# Altium footprint library Capacitors_imp.PCBLIB: 52 footprints (part 3 of 4)
Each footprint in its own frame and in the unit in brackets; x right, y up, seen from the top. Pads: shape width x height; smd on the part's side, far side on the other; paste and mask are expansions set on the pad; w line width, h text height; cw(c..) or ccw(c..) is an arc to the next point about the centre after c.
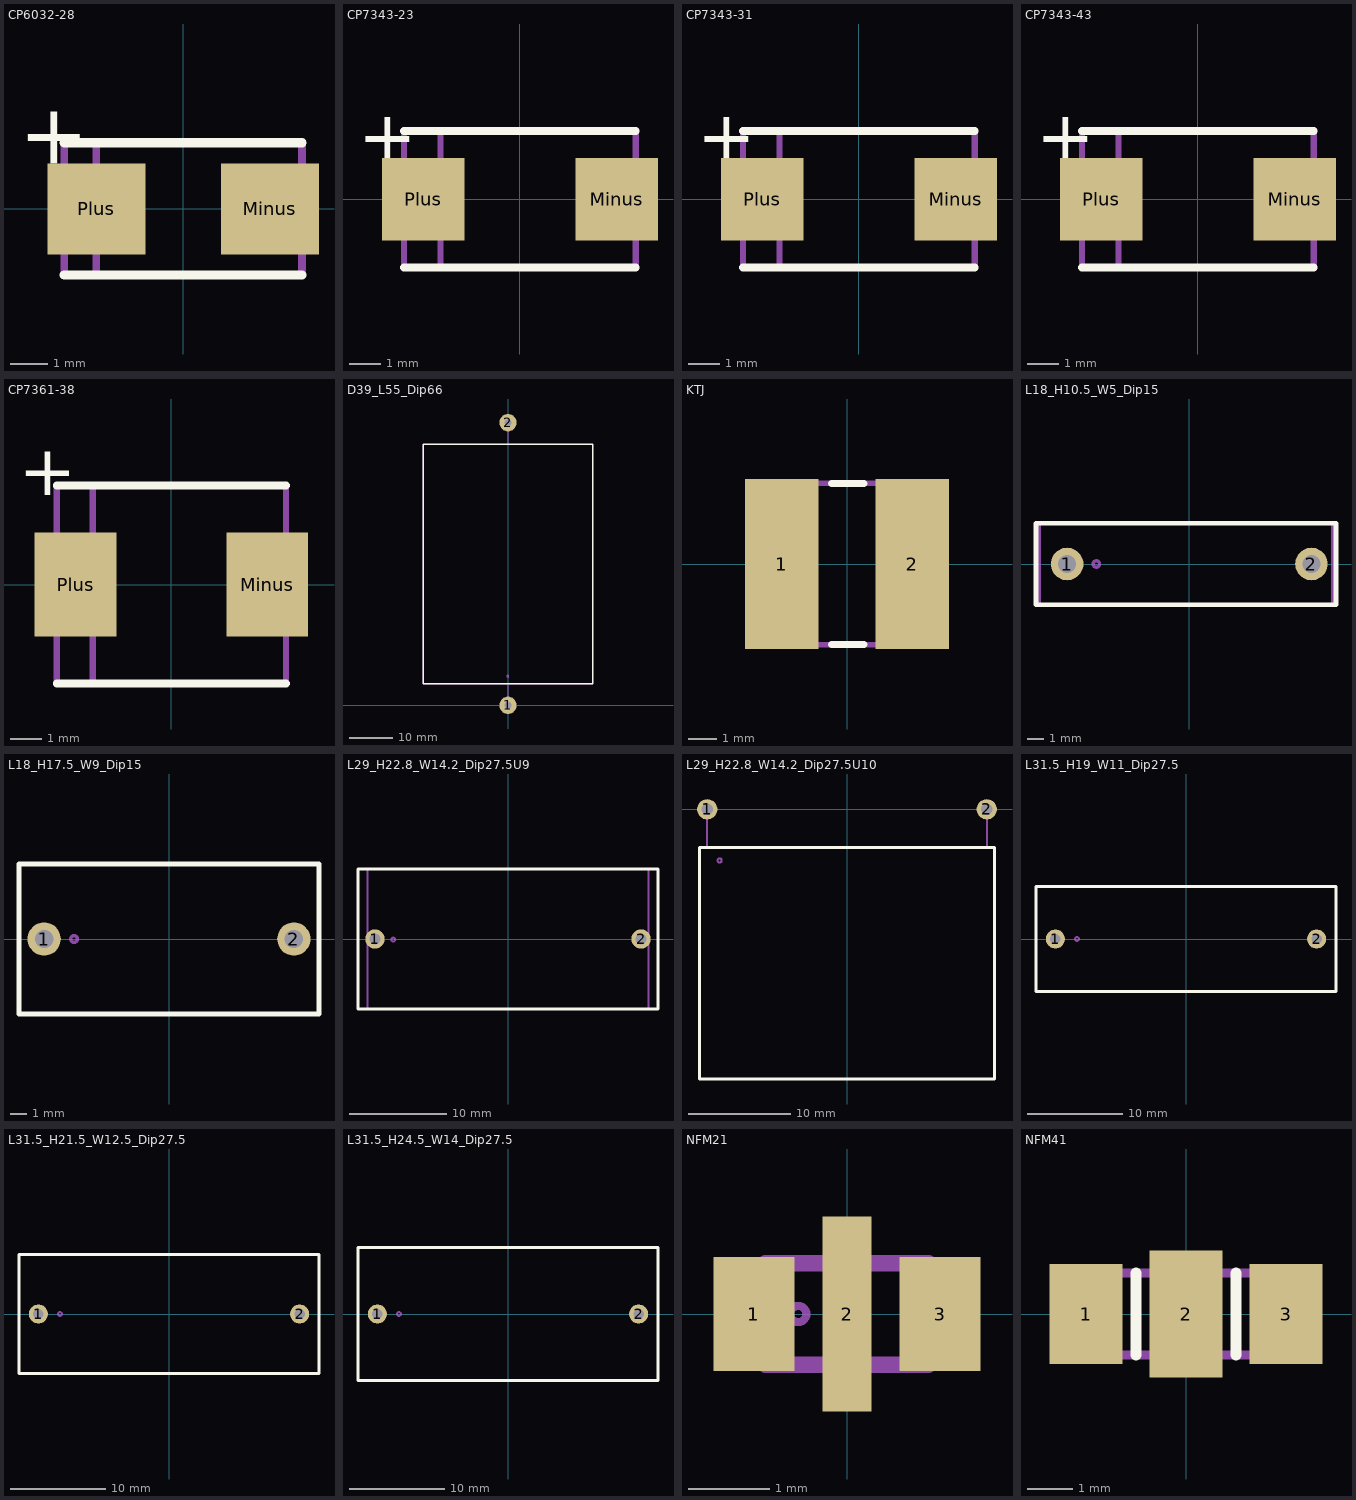
[diagram p2: the footprints below, top view; thin cyan lines are the x and y axes]

## CP6032-28 [mm]
height 2.8
pads (2):
  rect 2.6x2.4 smd: Minus(2.3,0) Plus(-2.3,0)
Top Overlay:
  lines w0.25: -3.15,-1.75 3.15,-1.75 ; -3.15,1.75 3.15,1.75
  text "+" at -4.35,1.2 h1.61
Mechanical 1:
  lines w0.2: -2.3,-1.75 -2.3,1.75 ; -3.15,-1.75 -3.15,1.75 3.15,1.75 3.15,-1.75 -3.15,-1.75
  text "+" at -2.05,-0.45 h1.5
  text ".Designator" at -0.88,-0.36 h1.5
3D body: height 2.9, standoff 0, extent -3.45,-1.75 3.45,1.75

## CP7343-23 [mm]
height 2.3
pads (2):
  rect 2.6x2.6 smd: Minus(3.05,0) Plus(-3.05,0)
Top Overlay:
  lines w0.25: -3.65,-2.15 3.65,-2.15 ; -3.65,2.15 3.65,2.15
  text "+" at -5.1,1.2 h1.61
Mechanical 1:
  lines w0.2: -2.5,-2 -2.5,2 ; -3.65,-2.15 3.65,-2.15 3.65,2.15 -3.65,2.15 -3.65,-2.15
  text ".Designator" at -0.98,-0.43 h1.5
  text "+" at -2,-0.45 h1.5
3D body: height 2.4, standoff 0, extent -3.8,-2.3 3.8,2.3

## CP7343-31 [mm]
height 3.1
pads (2):
  rect 2.6x2.6 smd: Minus(3.05,0) Plus(-3.05,0)
Top Overlay:
  lines w0.25: -3.65,-2.15 3.65,-2.15 ; -3.65,2.15 3.65,2.15
  text "+" at -5.1,1.2 h1.61
Mechanical 1:
  lines w0.2: -2.5,-2 -2.5,2 ; -3.65,-2.15 3.65,-2.15 3.65,2.15 -3.65,2.15 -3.65,-2.15
  text ".Designator" at -0.93,-0.44 h1.5
  text "+" at -1.95,-0.45 h1.5
3D body: height 3.2, standoff 0, extent -4.1,-2.3 4.1,2.3

## CP7343-43 [mm]
height 4.3
pads (2):
  rect 2.6x2.6 smd: Minus(3.05,0) Plus(-3.05,0)
Top Overlay:
  lines w0.25: -3.65,-2.15 3.65,-2.15 ; -3.65,2.15 3.65,2.15
  text "+" at -5.1,1.2 h1.61
Mechanical 1:
  lines w0.2: -2.5,-2 -2.5,2 ; -3.65,-2.15 -3.65,2.15 3.65,2.15 3.65,-2.15 -3.65,-2.15
  text "+" at -2.05,-0.45 h1.5
  text ".Designator" at -0.66,-0.4 h1.5
3D body: height 4.4, standoff 0, extent -4.1,-2.3 4.1,2.3

## CP7361-38 [mm]
height 3.8
pads (2):
  rect 2.6x3.3 smd: Minus(3.05,0) Plus(-3.05,0)
Top Overlay:
  lines w0.25: -3.65,-3.15 3.65,-3.15 ; -3.65,3.15 3.65,3.15
  text "+" at -4.85,2.85 h1.61
Mechanical 1:
  lines w0.2: -2.5,-3.1 -2.5,3.15 ; -3.65,-3.15 3.65,-3.15 3.65,3.15 -3.65,3.15 -3.65,-3.15
  text ".Designator" at -0.66,-0.4 h1.5
  text "+" at -2.05,-0.45 h1.5
3D body: height 3.9, standoff 0, extent -4.1,-3.15 4.1,3.15

## D39_L55_Dip66 [mm]
height 39
pads (2):
  round 4 hole 1.7: 1(0,0) 2(0,65)
Top Overlay:
  lines w0.3: -19.5,5 -19.5,60 19.5,60 19.5,5 -19.5,5
Mechanical 1:
  circle w0.2: c-0.05,6.69 r0.2
  lines w0.2: 0,0 0,5 ; 0,60 0,65 ; -19.5,5 -19.5,60 19.5,60 19.5,5 -19.5,5
  text ".Designator" at 0.2,31.1 h1.5
3D body: height 38.96, standoff -3, extent -19.5,-0.6 19.346,65.6

## KTJ [mm]
height 5.5
pads (2):
  rect 2.6x6 smd: 1(-2.3,0) 2(2.3,0)
Top Overlay:
  lines w0.25: -0.55,-2.85 0.6,-2.85 ; -0.55,2.85 0.6,2.85
Mechanical 1:
  circle w0.1: c-2.15,0 r0.1
  lines w0.2: -3.2,-2.85 3.2,-2.85 3.2,2.85 -3.2,2.85 -3.2,-2.85
  text ".Designator" at -1.85,1.27 h1.5
  text ".Comment" at -3.6,-4.18 h1.5
3D body: height 5.5, standoff 0, extent -3.2,-2.85 3.2,2.85

## L18_H10.5_W5_Dip15 [mm] "EPCOS"
height 10.5
pads (2):
  round 2 hole 1.1: 1(-7.493,0) 2(7.493,0)
Top Overlay:
  lines w0.3: -9.4,-2.5 -9.4,2.5 9,2.5 9,-2.5 -9.4,-2.5
Mechanical 1:
  circle w0.2: c-5.7,0 r0.2
  lines w0.2: -9.2,-2.5 8.8,-2.5 8.8,2.5 -9.2,2.5 -9.2,-2.5
  text ".Designator" at -1.85,-0.3 h1.5
3D body: height 10.5, standoff -6, extent -9,-2.5 9,2.5

## L18_H17.5_W9_Dip15 [mm] "EPCOS"
height 17.5
pads (2):
  round 2 hole 1.1: 1(-7.493,0) 2(7.493,0)
Top Overlay:
  lines w0.3: -9,-4.5 -9,4.5 9,4.5 9,-4.5 -9,-4.5
Mechanical 1:
  circle w0.2: c-5.7,0 r0.2
  lines w0.2: -9,-4.5 9,-4.5 9,4.5 -9,4.5 -9,-4.5
  text ".Designator" at -1.85,-0.3 h1.5
3D body: height 17.5, standoff -6, extent -9,-4.5 9,4.5

## L29_H22.8_W14.2_Dip27.5U9 [mm]
height 24
pads (2):
  round 2 hole 1.1: 1(-13.75,0) 2(13.75,0)
Top Overlay:
  lines w0.3: -15.5,-7.25 15.5,-7.25 15.5,7.25 -15.5,7.25 -15.5,-7.25
Mechanical 1:
  circle w0.2: c-11.865,-0.06 r0.2
  lines w0.2: -14.5,-7.25 14.5,-7.25 14.5,7.25 -14.5,7.25 -14.5,-7.25
  text ".Designator" at -1.85,-0.3 h1.5
3D body: height 23, standoff -3, extent -14.5,-7.1 14.5,7.1

## L29_H22.8_W14.2_Dip27.5U10 [mm]
height 14.5
pads (2):
  round 2 hole 1.1: 1(-13.75,0) 2(13.75,0)
Top Overlay:
  lines w0.3: -14.5,-26.5 14.5,-26.5 14.5,-3.75 -14.5,-3.75 -14.5,-26.5
Mechanical 1:
  circle w0.2: c-12.52,-5.03 r0.2
  lines w0.2: -13.75,-3.75 -13.75,0 ; 13.75,-3.75 13.75,0 ; -14.5,-26.5 14.5,-26.5 14.5,-3.75 10.5,-3.75 -10.5,-3.75 -14.5,-3.75 -14.5,-26.5
  text ".Designator" at -2.85,-16.3 h1.5
3D body: height 14.2, standoff -3, extent -14.5,-26.55 14.5,0.399

## L31.5_H19_W11_Dip27.5 [mm] "EPCOS"
height 19
pads (2):
  round 2 hole 1.1: 1(-13.716,0) 2(13.716,0)
Top Overlay:
  lines w0.3: -15.75,-5.5 15.75,-5.5 15.75,5.5 -15.75,5.5 -15.75,-5.5
Mechanical 1:
  circle w0.2: c-11.45,0 r0.2
  lines w0.2: -15.75,-5.5 -15.75,5.5 15.75,5.5 15.75,-5.5 -15.75,-5.5
  text ".Designator" at -1.85,-0.3 h1.5
3D body: height 19, standoff -6, extent -15.75,-5.5 15.75,5.5

## L31.5_H21.5_W12.5_Dip27.5 [mm] "EPCOS"
height 21.5
pads (2):
  round 2 hole 1.1: 1(-13.716,0) 2(13.716,0)
Top Overlay:
  lines w0.3: -15.75,-6.25 15.75,-6.25 15.75,6.25 -15.75,6.25 -15.75,-6.25
Mechanical 1:
  circle w0.2: c-11.45,0 r0.2
  lines w0.2: -15.75,-6.25 -15.75,6.25 15.75,6.25 15.75,-6.25 -15.75,-6.25
  text ".Designator" at -1.85,-0.3 h1.5
3D body: height 21.5, standoff -6, extent -15.75,-6.25 15.75,6.25

## L31.5_H24.5_W14_Dip27.5 [mm] "EPCOS"
height 24.5
pads (2):
  round 2 hole 1.1: 1(-13.716,0) 2(13.716,0)
Top Overlay:
  lines w0.3: -15.75,-7 15.75,-7 15.75,7 -15.75,7 -15.75,-7
Mechanical 1:
  circle w0.2: c-11.45,0 r0.2
  lines w0.2: -15.75,-7 -15.75,7 15.75,7 15.75,-7 -15.75,-7
  text ".Designator" at -1.85,-0.3 h1.5
3D body: height 24.5, standoff -6, extent -15.8,-7 15.7,7

## NFM21 [mm]
height 0.9
pads (3):
  rect 1x1.4 smd: 1(-1.143,0) 3(1.143,0)
  rect 0.6x2.4 smd: 2(0,0)
Mechanical 1:
  circle w0.1: c-0.6,0 r0.1
  lines w0.2: -1,-0.625 -1,0.625 1,0.625 1,-0.625 -1,-0.625
  text ".Designator" at -0.79,0.96 h1.5
3D body: height 0.95, standoff 0, extent -1.1,-0.675 1.1,0.675

## NFM41 [mm]
height 1.2
pads (3):
  rect 1.6x2.2 smd: 1(-2.2,0) 3(2.2,0)
  rect 1.6x2.8 smd: 2(0,0)
Top Overlay:
  lines w0.25: -1.1,-0.9 -1.1,0.9 ; 1.1,-0.9 1.1,0.9
Mechanical 1:
  circle w0.1: c-1.75,0 r0.1
  lines w0.2: -2.4,-0.9 2.4,-0.9 2.4,0.9 -2.4,0.9 -2.4,-0.9
  text ".Designator" at -1.04,1.71 h1.5
3D body: height 1.2, standoff 0, extent -2.4,-0.95 2.4,0.95